# Altium schematic symbol library EL-sense_Embedded_Solutions.SchLib: 4 symbols
Pins are listed as number, name and electrical type; pins without a type are passive.

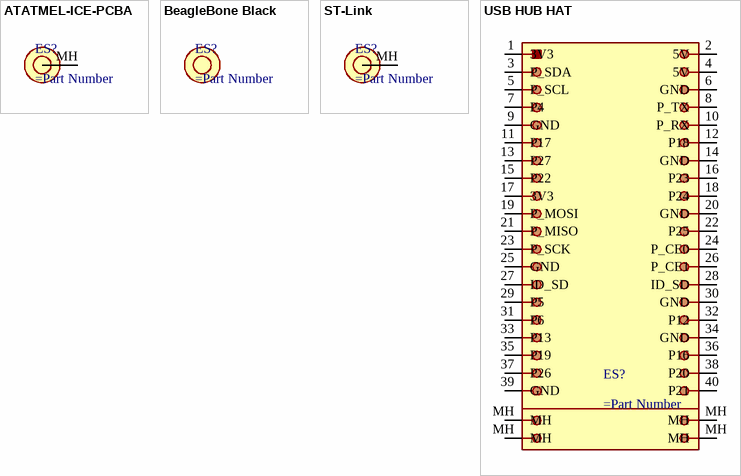
[diagram p0: symbols ATATMEL-ICE-PCBA to USB HUB HAT]

## ATATMEL-ICE-PCBA
designator ES?
pins: MH

## BeagleBone Black
designator ES?

## ST-Link
designator ES?
pins: MH

## USB HUB HAT
designator ES?
pins: 1 3V3, 2 5V, 3 P_SDA, 4 5V, 5 P_SCL, 6 GND, 7 P4, 8 P_TX, 9 GND, 10 P_RX, 11 P17, 12 P18, 13 P27, 14 GND, 15 P22, 16 P23, 17 3V3, 18 P24, 19 P_MOSI, 20 GND, 21 P_MISO, 22 P25, 23 P_SCK, 24 P_CE0, 25 GND, 26 P_CE1, 27 ID_SD, 28 ID_SD, 29 P5, 30 GND, 31 P6, 32 P12, 33 P13, 34 GND, 35 P19, 36 P16, 37 P26, 38 P20, 39 GND, 40 P21, MH, MH, MH, MH